# Altium footprint library R1966ABLKBLKGR.PcbLib: 1 footprints
Each footprint in its own frame and in the unit in brackets; x right, y up, seen from the top. Pads: shape width x height; smd on the part's side, far side on the other; paste and mask are expansions set on the pad; w line width, h text height; cw(c..) or ccw(c..) is an arc to the next point about the centre after c.
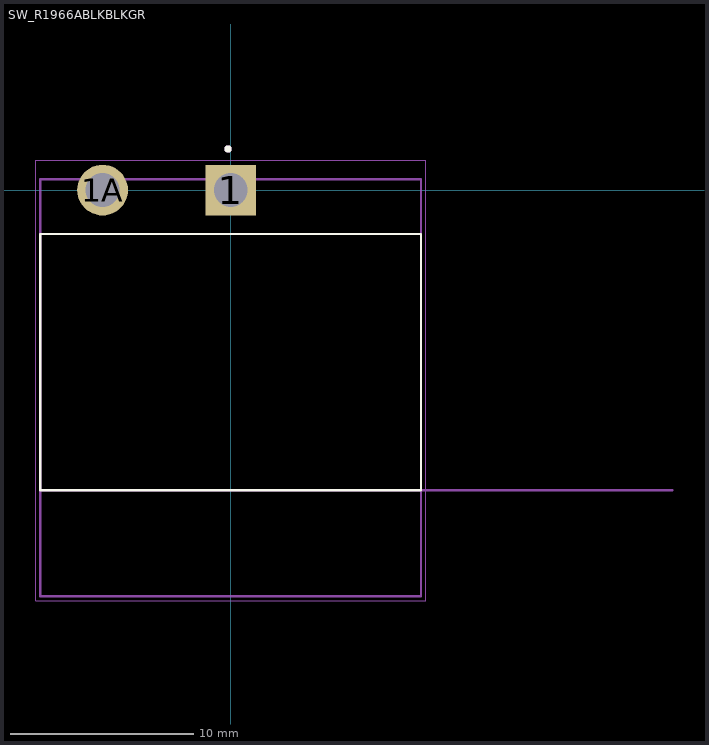
[diagram p0: the footprint, top view; thin cyan lines are the x and y axes]

## SW_R1966ABLKBLKGR [mm]
pads (2):
  rect 2.775x2.775 hole 1.85: 1(0,0)
  round 2.775 hole 1.85: 1A(-7,0)
Top Overlay:
  circle w0.2: c-0.142,2.254 r0.1
  lines w0.127: -10.4,-16.4 -10.4,-2.4 10.4,-2.4 10.4,-16.4 -10.4,-16.4
Mechanical 13:
  circle w0.2: c-0.142,2.254 r0.1
  lines w0.127: 24.13,-16.4 10.4,-16.4 ; -10.4,-16.4 -10.4,-22.2 10.4,-22.2 10.4,-16.4 ; -10.4,-16.4 -10.4,0.6 10.4,0.6 10.4,-16.4 ; -10.4,-16.4 10.4,-16.4
Mechanical 15:
  lines w0.05: -10.65,-22.45 10.65,-22.45 10.65,1.637 -10.65,1.637 -10.65,-22.45
3D body "step_temp.STEP": height 14.8, standoff -4.6, extent -10.472,-22.199 10.472,0.6